# Altium footprint library Michel_PcbLib.PcbLib: 6 footprints
Each footprint in its own frame and in the unit in brackets; x right, y up, seen from the top. Pads: shape width x height; smd on the part's side, far side on the other; paste and mask are expansions set on the pad; w line width, h text height; cw(c..) or ccw(c..) is an arc to the next point about the centre after c.
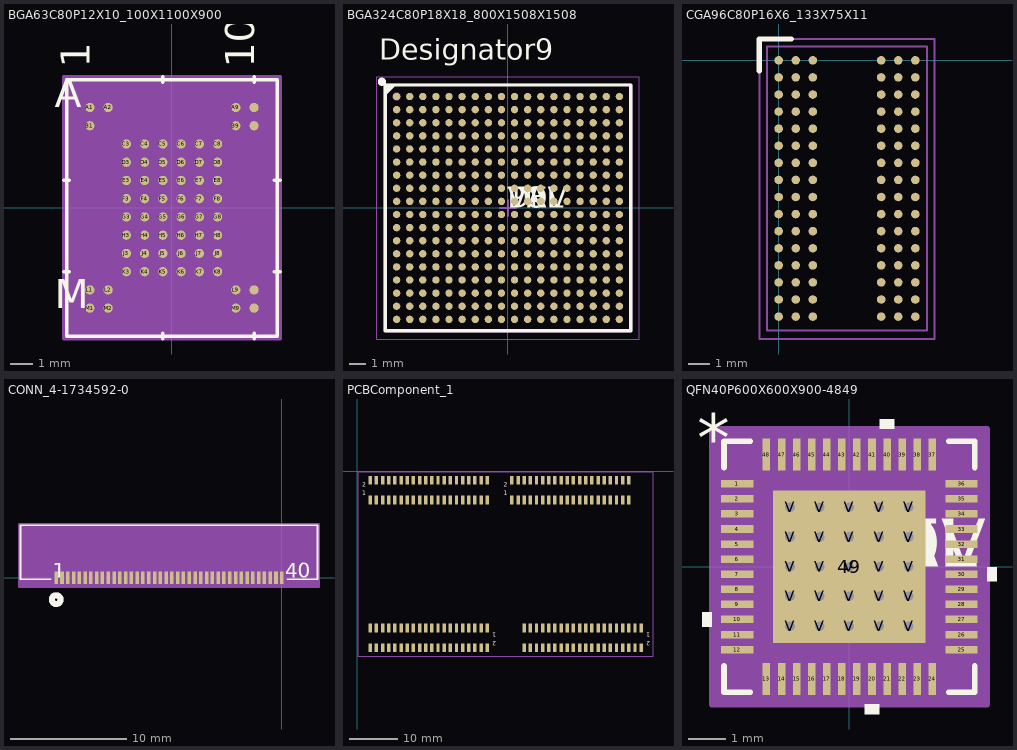
[diagram p0: the footprints below, top view; thin cyan lines are the x and y axes]

## BGA63C80P12X10_100X1100X900 [mm]
pads (63):
  round 0.406 smd paste+0 mask+0: A1(-3.6,4.4) A2(-2.8,4.4) A9(2.8,4.4) A10(3.6,4.4) B1(-3.6,3.6) B9(2.8,3.6) B10(3.6,3.6) C3(-2,2.8) C4(-1.2,2.8) C5(-0.4,2.8) C6(0.4,2.8) C7(1.2,2.8) C8(2,2.8) D3(-2,2) D4(-1.2,2) D5(-0.4,2) D6(0.4,2) D7(1.2,2) D8(2,2) E3(-2,1.2) E4(-1.2,1.2) E5(-0.4,1.2) E6(0.4,1.2) E7(1.2,1.2) E8(2,1.2) F3(-2,0.4) F4(-1.2,0.4) F5(-0.4,0.4) F6(0.4,0.4) F7(1.2,0.4) F8(2,0.4) G3(-2,-0.4) G4(-1.2,-0.4) G5(-0.4,-0.4) G6(0.4,-0.4) G7(1.2,-0.4) G8(2,-0.4) H3(-2,-1.2) H4(-1.2,-1.2) H5(-0.4,-1.2) H6(0.4,-1.2) H7(1.2,-1.2) H8(2,-1.2) J3(-2,-2) J4(-1.2,-2) J5(-0.4,-2) J6(0.4,-2) J7(1.2,-2) J8(2,-2) K3(-2,-2.8) K4(-1.2,-2.8) K5(-0.4,-2.8) K6(0.4,-2.8) K7(1.2,-2.8) K8(2,-2.8) L1(-3.6,-3.6) L2(-2.8,-3.6) L9(2.8,-3.6) L10(3.6,-3.6) M1(-3.6,-4.4) M2(-2.8,-4.4) M9(2.8,-4.4) M10(3.6,-4.4)
Top Overlay:
  lines w0.152: -4.75,-2.8 -4.496,-2.8 ; -4.75,1.2 -4.496,1.2 ; -0.4,-5.753 -0.4,-5.499 ; -0.4,5.499 -0.4,5.753 ; 3.6,-5.753 3.6,-5.499 ; 3.6,5.499 3.6,5.753 ; 4.496,-2.8 4.75,-2.8 ; 4.496,1.2 4.75,1.2 ; -4.623,-5.626 4.623,-5.626 4.623,5.626 -4.623,5.626 -4.623,-5.626
  text "A" at -5.131,4.4 h1.27
  text "M" at -5.131,-4.4 h1.27
  text "1" at -3.6,6.134 h1.27
  text "10" at 3.6,6.134 h1.27
Bottom Overlay:
  text "A" at -5.131,4.4 h1.27
  text "M" at -5.131,-4.4 h1.27
  text "1" at -3.6,6.134 h1.27
  text "10" at 3.6,6.134 h1.27
Mechanical 13:
  lines w0.025: -4.496,5.099 -4.096,5.499 ; -4.496,-5.499 4.496,-5.499 4.496,5.499 -4.496,5.499 -4.496,-5.499
  text "A" at -5.131,4.4 h1.27
  text "M" at -5.131,-4.4 h1.27
  text "1" at -3.6,6.134 h1.27
  text "10" at 3.6,6.134 h1.27
Mechanical 15:
  region: 4.75,-5.753 -4.75,-5.753 -4.75,5.753 4.75,5.753
  lines w0.152: -4.75,-5.753 -4.75,5.753 4.75,5.753 4.75,-5.753 -4.75,-5.753
3D body: height 0.25, standoff 0, extent 0,0 0.254,0.254

## BGA324C80P18X18_800X1508X1508 [mm]
pads (324):
  round 0.45 smd paste+0 mask+0.051: A1(-6.8,6.8) A2(-6,6.8) A3(-5.2,6.8) A4(-4.4,6.8) A5(-3.6,6.8) A6(-2.8,6.8) A7(-2,6.8) A8(-1.2,6.8) A9(-0.4,6.8) A10(0.4,6.8) A11(1.2,6.8) A12(2,6.8) A13(2.8,6.8) A14(3.6,6.8) A15(4.4,6.8) A16(5.2,6.8) A17(6,6.8) A18(6.8,6.8) B1(-6.8,6) B2(-6,6) B3(-5.2,6) B4(-4.4,6) B5(-3.6,6) B6(-2.8,6) B7(-2,6) B8(-1.2,6) B9(-0.4,6) B10(0.4,6) B11(1.2,6) B12(2,6) B13(2.8,6) B14(3.6,6) B15(4.4,6) B16(5.2,6) B17(6,6) B18(6.8,6) C1(-6.8,5.2) C2(-6,5.2) C3(-5.2,5.2) C4(-4.4,5.2) C5(-3.6,5.2) C6(-2.8,5.2) C7(-2,5.2) C8(-1.2,5.2) C9(-0.4,5.2) C10(0.4,5.2) C11(1.2,5.2) C12(2,5.2) C13(2.8,5.2) C14(3.6,5.2) C15(4.4,5.2) C16(5.2,5.2) C17(6,5.2) C18(6.8,5.2) D1(-6.8,4.4) D2(-6,4.4) D3(-5.2,4.4) D4(-4.4,4.4) D5(-3.6,4.4) D6(-2.8,4.4) D7(-2,4.4) D8(-1.2,4.4) D9(-0.4,4.4) D10(0.4,4.4) D11(1.2,4.4) D12(2,4.4) D13(2.8,4.4) D14(3.6,4.4) D15(4.4,4.4) D16(5.2,4.4) D17(6,4.4) D18(6.8,4.4) E1(-6.8,3.6) E2(-6,3.6) E3(-5.2,3.6) E4(-4.4,3.6) E5(-3.6,3.6) E6(-2.8,3.6) E7(-2,3.6) E8(-1.2,3.6) E9(-0.4,3.6) E10(0.4,3.6) E11(1.2,3.6) E12(2,3.6) E13(2.8,3.6) E14(3.6,3.6) E15(4.4,3.6) E16(5.2,3.6) E17(6,3.6) E18(6.8,3.6) F1(-6.8,2.8) F2(-6,2.8) F3(-5.2,2.8) F4(-4.4,2.8) F5(-3.6,2.8) F6(-2.8,2.8) F7(-2,2.8) F8(-1.2,2.8) F9(-0.4,2.8) F10(0.4,2.8) F11(1.2,2.8) F12(2,2.8) F13(2.8,2.8) F14(3.6,2.8) F15(4.4,2.8) F16(5.2,2.8) F17(6,2.8) F18(6.8,2.8) G1(-6.8,2) G2(-6,2) G3(-5.2,2) G4(-4.4,2) G5(-3.6,2) G6(-2.8,2) G7(-2,2) G8(-1.2,2) G9(-0.4,2) G10(0.4,2) G11(1.2,2) G12(2,2) G13(2.8,2) G14(3.6,2) G15(4.4,2) G16(5.2,2) G17(6,2) G18(6.8,2) H1(-6.8,1.2) H2(-6,1.2) H3(-5.2,1.2) H4(-4.4,1.2) H5(-3.6,1.2) H6(-2.8,1.2) H7(-2,1.2) H8(-1.2,1.2) H9(-0.4,1.2) H10(0.4,1.2) H11(1.2,1.2) H12(2,1.2) H13(2.8,1.2) H14(3.6,1.2) H15(4.4,1.2) H16(5.2,1.2) H17(6,1.2) H18(6.8,1.2) J1(-6.8,0.4) J2(-6,0.4) J3(-5.2,0.4) J4(-4.4,0.4) J5(-3.6,0.4) J6(-2.8,0.4) J7(-2,0.4) J8(-1.2,0.4) J9(-0.4,0.4) J10(0.4,0.4) J11(1.2,0.4) J12(2,0.4) J13(2.8,0.4) J14(3.6,0.4) J15(4.4,0.4) J16(5.2,0.4) J17(6,0.4) J18(6.8,0.4) K1(-6.8,-0.4) K2(-6,-0.4) K3(-5.2,-0.4) K4(-4.4,-0.4) K5(-3.6,-0.4) K6(-2.8,-0.4) K7(-2,-0.4) K8(-1.2,-0.4) K9(-0.4,-0.4) K10(0.4,-0.4) K11(1.2,-0.4) K12(2,-0.4) K13(2.8,-0.4) K14(3.6,-0.4) K15(4.4,-0.4) K16(5.2,-0.4) K17(6,-0.4) K18(6.8,-0.4) L1(-6.8,-1.2) L2(-6,-1.2) L3(-5.2,-1.2) L4(-4.4,-1.2) L5(-3.6,-1.2) L6(-2.8,-1.2) L7(-2,-1.2) L8(-1.2,-1.2) L9(-0.4,-1.2) L10(0.4,-1.2) L11(1.2,-1.2) L12(2,-1.2) L13(2.8,-1.2) L14(3.6,-1.2) L15(4.4,-1.2) L16(5.2,-1.2) L17(6,-1.2) L18(6.8,-1.2) M1(-6.8,-2) M2(-6,-2) M3(-5.2,-2) M4(-4.4,-2) M5(-3.6,-2) M6(-2.8,-2) M7(-2,-2) M8(-1.2,-2) M9(-0.4,-2) M10(0.4,-2) M11(1.2,-2) M12(2,-2) M13(2.8,-2) M14(3.6,-2) M15(4.4,-2) M16(5.2,-2) M17(6,-2) M18(6.8,-2) N1(-6.8,-2.8) N2(-6,-2.8) N3(-5.2,-2.8) N4(-4.4,-2.8) N5(-3.6,-2.8) N6(-2.8,-2.8) N7(-2,-2.8) N8(-1.2,-2.8) N9(-0.4,-2.8) N10(0.4,-2.8) N11(1.2,-2.8) N12(2,-2.8) N13(2.8,-2.8) N14(3.6,-2.8) N15(4.4,-2.8) N16(5.2,-2.8) N17(6,-2.8) N18(6.8,-2.8) P1(-6.8,-3.6) P2(-6,-3.6) P3(-5.2,-3.6) P4(-4.4,-3.6) P5(-3.6,-3.6) P6(-2.8,-3.6) P7(-2,-3.6) P8(-1.2,-3.6) P9(-0.4,-3.6) P10(0.4,-3.6) P11(1.2,-3.6) P12(2,-3.6) P13(2.8,-3.6) P14(3.6,-3.6) P15(4.4,-3.6) P16(5.2,-3.6) P17(6,-3.6) P18(6.8,-3.6) R1(-6.8,-4.4) R2(-6,-4.4) R3(-5.2,-4.4) R4(-4.4,-4.4) R5(-3.6,-4.4) R6(-2.8,-4.4) R7(-2,-4.4) R8(-1.2,-4.4) R9(-0.4,-4.4) R10(0.4,-4.4) R11(1.2,-4.4) R12(2,-4.4) R13(2.8,-4.4) R14(3.6,-4.4) R15(4.4,-4.4) R16(5.2,-4.4) R17(6,-4.4) R18(6.8,-4.4) T1(-6.8,-5.2) T2(-6,-5.2) T3(-5.2,-5.2) T4(-4.4,-5.2) T5(-3.6,-5.2) T6(-2.8,-5.2) T7(-2,-5.2) T8(-1.2,-5.2) T9(-0.4,-5.2) T10(0.4,-5.2) T11(1.2,-5.2) T12(2,-5.2) T13(2.8,-5.2) T14(3.6,-5.2) T15(4.4,-5.2) T16(5.2,-5.2) T17(6,-5.2) T18(6.8,-5.2) U1(-6.8,-6) U2(-6,-6) U3(-5.2,-6) U4(-4.4,-6) U5(-3.6,-6) U6(-2.8,-6) U7(-2,-6) U8(-1.2,-6) U9(-0.4,-6) U10(0.4,-6) U11(1.2,-6) U12(2,-6) U13(2.8,-6) U14(3.6,-6) U15(4.4,-6) U16(5.2,-6) U17(6,-6) U18(6.8,-6) V1(-6.8,-6.8) V2(-6,-6.8) V3(-5.2,-6.8) V4(-4.4,-6.8) V5(-3.6,-6.8) V6(-2.8,-6.8) V7(-2,-6.8) V8(-1.2,-6.8) V9(-0.4,-6.8) V10(0.4,-6.8) V11(1.2,-6.8) V12(2,-6.8) V13(2.8,-6.8) V14(3.6,-6.8) V15(4.4,-6.8) V16(5.2,-6.8) V17(6,-6.8) V18(6.8,-6.8)
Top Overlay:
  circle w0.25: c-7.7,7.7 r0.125
  region: -7.5,7.5 -6.984,7.5 -7.5,6.984
  lines w0.2: -7.5,6.984 -6.984,7.5 ; -7.5,-7.5 7.5,-7.5 7.5,7.5 -7.5,7.5 -7.5,-7.5
  text "DEV" at 0,0 h1.27
  text "PN" at 0,0 h1.27
  text "VAL" at 0,0 h1.27
  text "TOL" at 0,0 h1.27
  text "Designator9" at -7.849,9.042 h1.27
Mechanical 13:
  circle w0.1: c-6.8,6.8 r0.2
  lines w0.1: -7.55,-7.55 7.55,-7.55 7.55,7.55 -7.55,7.55 -7.55,-7.55
  text ".Designator" at -1.524,-0.508 h1.27
Mechanical 15:
  lines w0.05: -8,-8 8,-8 8,8 -8,8 -8,-8
  lines w0.1: -0.5,0 0.5,0 ; 0,-0.5 0,0.5
3D body: height 0.25, standoff 0, extent 0,0 0.254,0.254

## CGA96C80P16X6_133X75X11 [mm]
pads (96):
  round 0.4 smd mask+0.02: A1(0,0) A2(0.8,0) A3(1.6,0) A7(4.8,0) A8(5.6,0) A9(6.4,0) B1(0,-0.8) B2(0.8,-0.8) B3(1.6,-0.8) B7(4.8,-0.8) B8(5.6,-0.8) B9(6.4,-0.8) C1(0,-1.6) C2(0.8,-1.6) C3(1.6,-1.6) C7(4.8,-1.6) C8(5.6,-1.6) C9(6.4,-1.6) D1(0,-2.4) D2(0.8,-2.4) D3(1.6,-2.4) D7(4.8,-2.4) D8(5.6,-2.4) D9(6.4,-2.4) E1(0,-3.2) E2(0.8,-3.2) E3(1.6,-3.2) E7(4.8,-3.2) E8(5.6,-3.2) E9(6.4,-3.2) F1(0,-4) F2(0.8,-4) F3(1.6,-4) F7(4.8,-4) F8(5.6,-4) F9(6.4,-4) G1(0,-4.8) G2(0.8,-4.8) G3(1.6,-4.8) G7(4.8,-4.8) G8(5.6,-4.8) G9(6.4,-4.8) H1(0,-5.6) H2(0.8,-5.6) H3(1.6,-5.6) H7(4.8,-5.6) H8(5.6,-5.6) H9(6.4,-5.6) J1(0,-6.4) J2(0.8,-6.4) J3(1.6,-6.4) J7(4.8,-6.4) J8(5.6,-6.4) J9(6.4,-6.4) K1(0,-7.2) K2(0.8,-7.2) K3(1.6,-7.2) K7(4.8,-7.2) K8(5.6,-7.2) K9(6.4,-7.2) L1(0,-8) L2(0.8,-8) L3(1.6,-8) L7(4.8,-8) L8(5.6,-8) L9(6.4,-8) M1(0,-8.8) M2(0.8,-8.8) M3(1.6,-8.8) M7(4.8,-8.8) M8(5.6,-8.8) M9(6.4,-8.8) N1(0,-9.6) N2(0.8,-9.6) N3(1.6,-9.6) N7(4.8,-9.6) N8(5.6,-9.6) N9(6.4,-9.6) P1(0,-10.4) P2(0.8,-10.4) P3(1.6,-10.4) P7(4.8,-10.4) P8(5.6,-10.4) P9(6.4,-10.4) R1(0,-11.2) R2(0.8,-11.2) R3(1.6,-11.2) R7(4.8,-11.2) R8(5.6,-11.2) R9(6.4,-11.2) T1(0,-12) T2(0.8,-12) T3(1.6,-12) T7(4.8,-12) T8(5.6,-12) T9(6.4,-12)
Top Overlay:
  lines w0.254: -0.9,-0.5 -0.9,1 0.6,1
Mechanical 13:
  lines w0.1: -0.55,-12.65 -0.55,0.65 6.95,0.65 6.95,-12.65 -0.55,-12.65
Mechanical 15:
  lines w0.1: -0.9,-13.05 7.3,-13.05 7.3,1 -0.9,1 -0.9,-13.05
3D body: height 1.2, standoff 0, extent -0.55,-12.65 6.95,0.65

## CONN_4-1734592-0 [mil]
pads (40):
  rect 12x43 smd: 1(-767.72,0) 2(-748.03,0) 3(-728.35,0) 4(-708.66,0) 5(-688.98,0) 6(-669.29,0) 7(-649.61,0) 8(-629.92,0) 9(-610.24,0) 10(-590.55,0) 11(-570.87,0) 12(-551.18,0) 13(-531.5,0) 14(-511.81,0) 15(-492.13,0) 16(-472.44,0) 17(-452.76,0) 18(-433.07,0) 19(-413.39,0) 20(-393.7,0) 21(-374.02,0) 22(-354.33,0) 23(-334.65,0) 24(-314.96,0) 25(-295.28,0) 26(-275.59,0) 27(-255.91,0) 28(-236.22,0) 29(-216.54,0) 30(-196.85,0) 31(-177.17,0) 32(-157.48,0) 33(-137.8,0) 34(-118.11,0) 35(-98.43,0) 36(-78.74,0) 37(-59.06,0) 38(-39.37,0) 39(-19.69,0) 40(0,0)
Top Overlay:
  circle w20: c-767.72,-75 r15
  lines w6: -786.82,-5 -889.36,-5 -889.36,178 121.64,178 121.64,-5 19.1,-5
  text "40" at 12,0 h50
  text "40" at 12,0 h50
  text "1" at -779.72,0 h50
  text "1" at -779.72,0 h50
Bottom Overlay:
  circle w20: c-767.72,-75 r15
  text "40" at 12,0 h50
  text "40" at 12,0 h50
  text "1" at -779.72,0 h50
  text "1" at -779.72,0 h50
Mechanical 13:
  circle w20: c-767.72,-75 r15
  lines w1: -884.36,0 -884.36,173 116.64,173 116.64,0 -884.36,0
  text "40" at 12,0 h50
  text "40" at 12,0 h50
  text "1" at -779.72,0 h50
  text "1" at -779.72,0 h50
Mechanical 15:
  region: 126.64,183 -894.36,183 -894.36,-31.5 126.64,-31.5
  lines w6: -894.36,-31.5 126.64,-31.5 126.64,183 -894.36,183 -894.36,-31.5
3D body: height 10, standoff 0, extent 0,0 10,10

## PCBComponent_1 [mil]
pads (160):
  rect 28x71 smd: 1-1(105,-235) 1-2(105,-75) 1-3(155,-235) 1-4(155,-75) 1-5(205,-235) 1-6(205,-75) 1-7(255,-235) 1-8(255,-75) 1-9(305,-235) 1-10(305,-75) 1-11(355,-235) 1-12(355,-75) 1-13(405,-235) 1-14(405,-75) 1-15(455,-235) 1-16(455,-75) 1-17(505,-235) 1-18(505,-75) 1-19(555,-235) 1-20(555,-75) 1-21(605,-235) 1-22(605,-75) 1-23(655,-235) 1-24(655,-75) 1-25(705,-235) 1-26(705,-75) 1-27(755,-235) 1-28(755,-75) 1-29(805,-235) 1-30(805,-75) 1-31(855,-235) 1-32(855,-75) 1-33(905,-235) 1-34(905,-75) 1-35(955,-235) 1-36(955,-75) 1-37(1005,-235) 1-38(1005,-75) 1-39(1055,-235) 1-40(1055,-75) 2-1(1255,-235) 2-2(1255,-75) 2-3(1305,-235) 2-4(1305,-75) 2-5(1355,-235) 2-6(1355,-75) 2-7(1405,-235) 2-8(1405,-75) 2-9(1455,-235) 2-10(1455,-75) 2-11(1505,-235) 2-12(1505,-75) 2-13(1555,-235) 2-14(1555,-75) 2-15(1605,-235) 2-16(1605,-75) 2-17(1655,-235) 2-18(1655,-75) 2-19(1705,-235) 2-20(1705,-75) 2-21(1755,-235) 2-22(1755,-75) 2-23(1805,-235) 2-24(1805,-75) 2-25(1855,-235) 2-26(1855,-75) 2-27(1905,-235) 2-28(1905,-75) 2-29(1955,-235) 2-30(1955,-75) 2-31(2005,-235) 2-32(2005,-75) 2-33(2055,-235) 2-34(2055,-75) 2-35(2105,-235) 2-36(2105,-75) 2-37(2155,-235) 2-38(2155,-75) 2-39(2205,-235) 2-40(2205,-75) 3-1(2305,-1275) 3-2(2305,-1435) 3-3(2255,-1275) 3-4(2255,-1435) 3-5(2205,-1275) 3-6(2205,-1435) 3-7(2155,-1275) 3-8(2155,-1435) 3-9(2105,-1275) 3-10(2105,-1435) 3-11(2055,-1275) 3-12(2055,-1435) 3-13(2005,-1275) 3-14(2005,-1435) 3-15(1955,-1275) 3-16(1955,-1435) 3-17(1905,-1275) 3-18(1905,-1435) 3-19(1855,-1275) 3-20(1855,-1435) 3-21(1805,-1275) 3-22(1805,-1435) 3-23(1755,-1275) 3-24(1755,-1435) 3-25(1705,-1275) 3-26(1705,-1435) 3-27(1655,-1275) 3-28(1655,-1435) 3-29(1605,-1275) 3-30(1605,-1435) 3-31(1555,-1275) 3-32(1555,-1435) 3-33(1505,-1275) 3-34(1505,-1435) 3-35(1455,-1275) 3-36(1455,-1435) 3-37(1405,-1275) 3-38(1405,-1435) 3-39(1355,-1275) 3-40(1355,-1435) 4-1(1055,-1275) 4-2(1055,-1435) 4-3(1005,-1275) 4-4(1005,-1435) 4-5(955,-1275) 4-6(955,-1435) 4-7(905,-1275) 4-8(905,-1435) 4-9(855,-1275) 4-10(855,-1435) 4-11(805,-1275) 4-12(805,-1435) 4-13(755,-1275) 4-14(755,-1435) 4-15(705,-1275) 4-16(705,-1435) 4-17(655,-1275) 4-18(655,-1435) 4-19(605,-1275) 4-20(605,-1435) 4-21(555,-1275) 4-22(555,-1435) 4-23(505,-1275) 4-24(505,-1435) 4-25(455,-1275) 4-26(455,-1435) 4-27(405,-1275) 4-28(405,-1435) 4-29(355,-1275) 4-30(355,-1435) 4-31(305,-1275) 4-32(305,-1435) 4-33(255,-1275) 4-34(255,-1435) 4-35(205,-1275) 4-36(205,-1435) 4-37(155,-1275) 4-38(155,-1435) 4-39(105,-1275) 4-40(105,-1435)
Top Overlay:
  text "1" at 40,-210 h62
  text "2" at 40,-140 h62
  text "1" at 1190,-210 h62
  text "2" at 1190,-140 h62
  text "1" at 2380,-1300 h62
  text "2" at 2380,-1370 h62
  text "1" at 1130,-1300 h62
  text "2" at 1130,-1370 h62
Mechanical 2:
  text "AM_CON-LCD" at 455,-280 h62
  text "AM_CON-GPIO1" at 1655,-280 h62
  text "AM_CON-GPIO2" at 1905,-1230 h62
  text "AM_CON-GPIO3" at 655,-1230 h62
Mechanical 4:
  text "GPH127SMT-02X20(PA-V16X-2X20-LF)" at 1055,-280 h24.8
  text "GPH127SMT-02X20(PA-V16X-2X20-LF)" at 2205,-280 h24.8
  text "GPH127SMT-02X20(PA-V16X-2X20-LF)" at 1355,-1230 h24.8
  text "GPH127SMT-02X20(PA-V16X-2X20-LF)" at 105,-1230 h24.8
Mechanical 16:
  lines w10: 5,-1505 5,-5 2405,-5 2405,-1505 5,-1505
  text "SOM-EVB" at 580,-855 h310

## QFN40P600X600X900-4849 [mm]
pads (74):
  rect 0.85x0.2 smd paste-0.1: 1(-2.975,2.2) 2(-2.975,1.8) 3(-2.975,1.4) 4(-2.975,1) 5(-2.975,0.6) 6(-2.975,0.2) 7(-2.975,-0.2) 8(-2.975,-0.6) 9(-2.975,-1) 10(-2.975,-1.4) 11(-2.975,-1.8) 12(-2.975,-2.2) 25(2.975,-2.2) 26(2.975,-1.8) 27(2.975,-1.4) 28(2.975,-1) 29(2.975,-0.6) 30(2.975,-0.2) 31(2.975,0.2) 32(2.975,0.6) 33(2.975,1) 34(2.975,1.4) 35(2.975,1.8) 36(2.975,2.2)
  rect 0.2x0.85 smd paste-0.1: 13(-2.2,-2.975) 14(-1.8,-2.975) 15(-1.4,-2.975) 16(-1,-2.975) 17(-0.6,-2.975) 18(-0.2,-2.975) 19(0.2,-2.975) 20(0.6,-2.975) 21(1,-2.975) 22(1.4,-2.975) 23(1.8,-2.975) 24(2.2,-2.975) 37(2.2,2.975) 38(1.8,2.975) 39(1.4,2.975) 40(1,2.975) 41(0.6,2.975) 42(0.2,2.975) 43(-0.2,2.975) 44(-0.6,2.975) 45(-1,2.975) 46(-1.4,2.975) 47(-1.8,2.975) 48(-2.2,2.975)
  rect 4.05x4.05 smd paste-2.012 mask-2.007: 49(0,0)
  round 0.508 / inner round 1.524 / far side round 0.508 hole 0.254: V(-1.575,-1.575) V(-1.575,-0.787) V(-1.575,0) V(-1.575,0.787) V(-1.575,1.575) V(-0.787,-1.575) V(-0.787,-0.787) V(-0.787,0) V(-0.787,0.787) V(-0.787,1.575) V(0,-1.575) V(0,-0.787) V(0,0) V(0,0.787) V(0,1.575) V(0.787,-1.575) V(0.787,-0.787) V(0.787,0) V(0.787,0.787) V(0.787,1.575) V(1.575,-1.575) V(1.575,-0.787) V(1.575,0) V(1.575,0.787) V(1.575,1.575)
Top Overlay:
  region: 1.191,3.654 0.81,3.654 0.81,3.908 1.191,3.908
  region: 3.654,-0.009 3.908,-0.009 3.908,-0.39 3.654,-0.39
  region: 0.79,-3.654 0.409,-3.654 0.409,-3.908 0.79,-3.908
  region: -3.654,-1.209 -3.908,-1.209 -3.908,-1.59 -3.654,-1.59
  lines w0.152: -3.329,-2.633 -3.329,-3.329 -2.633,-3.329 ; -3.329,2.633 -3.329,3.329 -2.633,3.329 ; 2.633,-3.329 3.329,-3.329 3.329,-2.633 ; 2.633,3.329 3.329,3.329 3.329,2.633
  text "TOL" at 0,0 h1.27
  text "VAL" at 0,0 h1.27
  text "DEV" at 0,0 h1.27
  text "PN" at 0,0 h1.27
  text "*" at -4.035,2.781 h1.27
Top Paste:
  drawing of 84 lines, arcs and shapes, not listed
Top Solder:
  drawing of 60 lines, arcs and shapes, not listed
Mechanical 13:
  text "RefDes2" at 0,0 h1.27
  text "*" at -4.035,2.781 h1.27
Mechanical 15:
  region: 3.654,-3.654 -3.654,-3.654 -3.654,3.654 3.654,3.654
  lines w0.152: -3.654,-3.654 3.654,-3.654 3.654,3.654 -3.654,3.654 -3.654,-3.654
3D body: height 0.92, standoff 0, extent -3.126,-3.126 3.126,3.126